# EAGLE library part 6620XX21122_66202221122 (library Wurth_Connectors_WR-MPC3)
WR-MPC3 3.00 mm Male Dual Row Vertical Header KIND PROPERTIES: Pitch:3 mm Gender:Male MATERIAL PROPERTIES: Insulator Material:LCP Insulator Flammability Rating:UL94 V-0 Insulator Color:Black Contact Material:Copper Alloy Contact Plating:Tin Contact Type:Stamped GENERAL INFORMATION Operating Temperature:-40 up to +105 °C Working Voltage:250V (AC) Withstanding Voltage:1500 V (AC) Contact Resistance:10 mΩ RISO:1000 MΩ CERTIFICATION UL Approval:E323964 PACKAGING PROPERTIES Packaging:Tube <https://katalog.we-online.com/media/images/v2/o33170v209%20Family_WR-MPC3_6620xx21122.jpg> Details see: https://katalog.we-online.com/en/em/MPC3_3_00_MALE_DUAL_ROW_VERTICAL_HEADER_6620XX21122 Updated by Yingchun,Shan 2019-11-13 2019 (C) Würth Elektronik
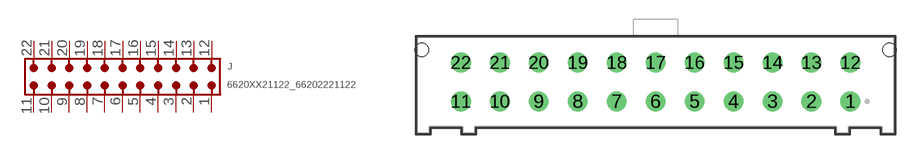
[diagram p44: symbol with the pads of 66202221122; footprint 66202221122]

Designator prefix J

## 6620XX21122_66202221122 (CONTACT-RESISTANCE: 10Ohm; DATASHEET-URL: https://www.we-online.com/redexpert/spec/66202221122?ae; GENDER: Male; IR: 5A; MOUNT: THT; PART-NUMBER: 66202221122; PINS: 22; PITCH: 3mm; ROWS: Dual; TOL-R: max.; TYPE: Vertical; VALUE: 66202221122; WORKING-VOLTAGE: 250V(AC))  [66202221122]
1  1  pas
2  2  pas
3  3  pas
4  4  pas
5  5  pas
6  6  pas
7  7  pas
8  8  pas
9  9  pas
10  10  pas
11  11  pas
12  12  pas
13  13  pas
14  14  pas
15  15  pas
16  16  pas
17  17  pas
18  18  pas
19  19  pas
20  20  pas
21  21  pas
22  22  pas

## Footprint 66202221122 (pad centres in mm)
WR-MPC3 3.00 mm Male Dual Row Vertical Header,22 pins
drill 1.02: 1 15,-1.5; 2 12,-1.5; 3 9,-1.5; 4 6,-1.5; 5 3,-1.5; 6 0,-1.5; 7 -3,-1.5; 8 -6,-1.5; 9 -9,-1.5; 10 -12,-1.5; 11 -15,-1.5; 12 15,1.5; 13 12,1.5; 14 9,1.5; 15 6,1.5; 16 3,1.5; 17 0,1.5; 18 -3,1.5; 19 -6,1.5; 20 -9,1.5; 21 -12,1.5; 22 -15,1.5
hole 1.02 at -18,2.49
hole 1.02 at 18,2.49